# Altium schematic symbol library Movandi_10.SchLib: 36 symbols
Pins are listed as number, name and electrical type; pins without a type are passive.

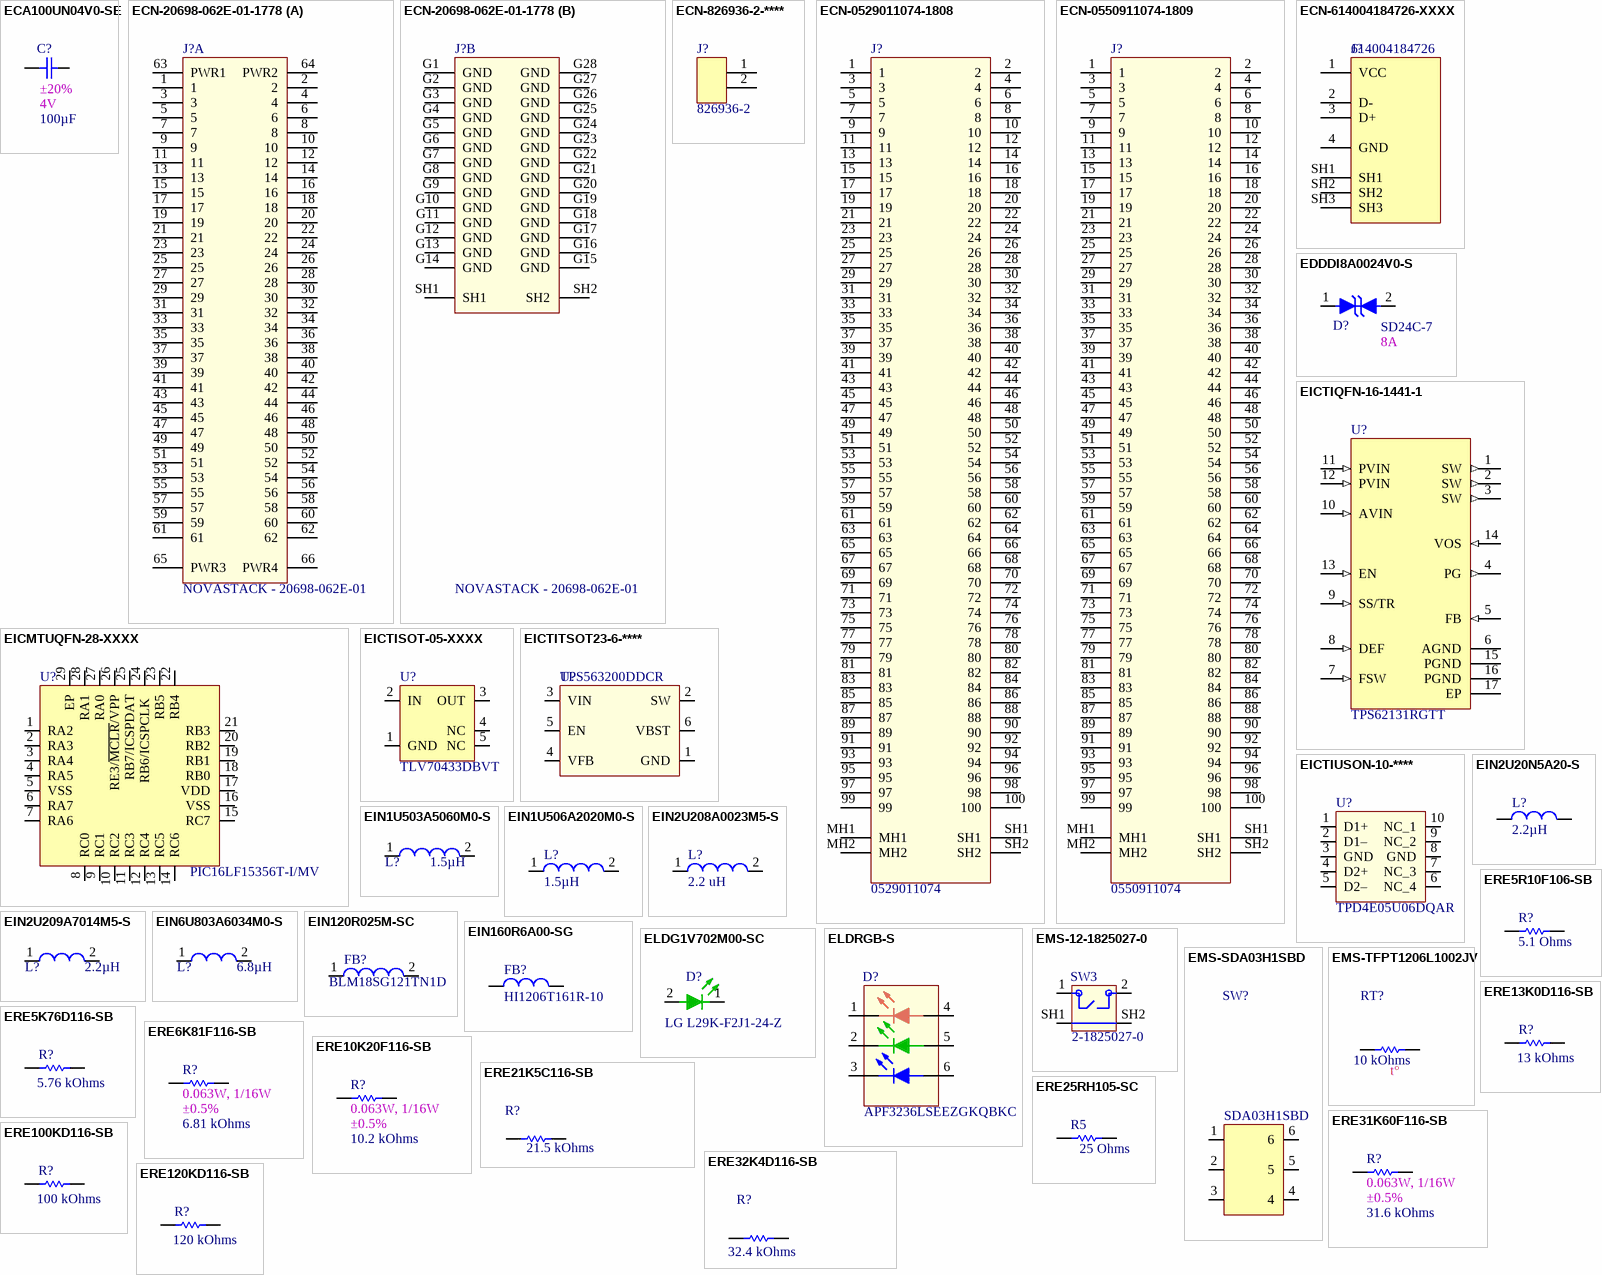
[diagram p0: symbols ECA100UN04V0-SE to ERE120KD116-SB]

## ECA100UN04V0-SE
designator C?, comment value 100µF  2nd Auxiliary Field: ±20%  1st Auxiliary Field: 4V  (hidden comment: CAP CER 100UF 4V X5R 0805)
Manufacturer: Murata Electronics; Vendor Part Number: 490-10510-1-ND; Manufacturer Part Number: GRM21BR60G107ME15L; Internal Part Number: ECA100UN04V0-SE; Vendor Name: Digi-Key; 3rd Auxiliary Field: ROHS3 Compliant; Component Height (mm): 1.45mm; Part Type: CAP CER 100UF 4V X5R 0805; 4th Auxiliary Field: *; Temp Co: X5R
footprint SMDC0805 (Footprint not found)
pins: 1, 2

## ECN-20698-062E-01-1778
designator J?, comment Manufacturer Part Number: NOVASTACK - 20698-062E-01  (hidden comment: CONN REC 0.35 mm pitch, 62 POS SMD)
Manufacturer: I-PEX Connectors; Internal Part Number: ECN-20698-062E-01-1778; 1st Auxiliary Field: Receptacle; 2nd Auxiliary Field: 3.5mm; 3rd Auxiliary Field: 62Pos; Component Height (mm): .75mm; Temp Co: -40°C ~ 85°C; Value: 20698-062E-01; Vendor Part Number: https://www.i-pex.com/product/novastack-35-hdp; 4th Auxiliary Field: *; Part Type: CONN REC 0.35 mm pitch, 62 POS SMD
footprint NOVASTACK_I-PEX_20698-062E-01_20698-062E-01 (Footprint not found)
part A pins: 1, 2, 3, 4, 5, 6, 7, 8, 9, 10, 11, 12, 13, 14, 15, 16, 17, 18, 19, 20, 21, 22, 23, 24, 25, 26, 27, 28, 29, 30, 31, 32, 33, 34, 35, 36, 37, 38, 39, 40, 41, 42, 43, 44, 45, 46, 47, 48, 49, 50, 51, 52, 53, 54, 55, 56, 57, 58, 59, 60, 61, 62, 63 PWR1 (power), 64 PWR2 (power), 65 PWR3 (power), 66 PWR4 (power)
part B pins: G1 GND (power), G2 GND (power), G3 GND (power), G4 GND (power), G5 GND (power), G6 GND (power), G7 GND (power), G8 GND (power), G9 GND (power), G10 GND (power), G11 GND (power), G12 GND (power), G13 GND (power), G14 GND (power), G15 GND (power), G16 GND (power), G17 GND (power), G18 GND (power), G19 GND (power), G20 GND (power), G21 GND (power), G22 GND (power), G23 GND (power), G24 GND (power), G25 GND (power), G26 GND (power), G27 GND (power), G28 GND (power), SH1 (power), SH2 (power)

## ECN-826936-2-****
designator J?, comment Manufacturer Part Number: 826936-2  (hidden comment: CONN HEADER VERT 2POS 2.54MM)
Internal Part Number: ECN-826936-2-****; Manufacturer: TE Connectivity AMP Connectors; Vendor Part Number: A122912-ND; 1st Auxiliary Field: 2; 2nd Auxiliary Field: 5A; 3rd Auxiliary Field: RoHS Compliant; Component Height (mm): 11.81mm; Temp Co: -65°C ~ 105°C; Value: 826936-2; Vendor Name: Digi-Key; 4th Auxiliary Field: *; Part Type: CONN HEADER VERT 2POS 2.54MM
footprint HDRV2W62P254_1X2_500X250X800P (Footprint not found)
pins: 1, 2

## ECN-0529011074-1808
designator J?, comment value 0529011074  (hidden comment: CONN RCPT 100POS SMD GOLD)
Manufacturer: Molex; Internal Part Number: ECN-0529011074-1808; Vendor Part Number: WM8920CT-ND; 3rd Auxiliary Field: ROHS3 Compliant; Component Height (mm): 10.00mm; Temp Co: -55°C ~ 105°C; 4th Auxiliary Field: ****; Vendor Name: Digi-Key; 1st Auxiliary Field: Receptacle, Center Strip Contacts; 2nd Auxiliary Field: 0.025" (0.64mm); Manufacturer Part Number: 0529011074; Part Type: CONN RCPT 100POS SMD GOLD
footprint MOLEX_0529011074
pins: 1, 2, 3, 4, 5, 6, 7, 8, 9, 10, 11, 12, 13, 14, 15, 16, 17, 18, 19, 20, 21, 22, 23, 24, 25, 26, 27, 28, 29, 30, 31, 32, 33, 34, 35, 36, 37, 38, 39, 40, 41, 42, 43, 44, 45, 46, 47, 48, 49, 50, 51, 52, 53, 54, 55, 56, 57, 58, 59, 60, 61, 62, 63, 64, 65, 66, 67, 68, 69, 70, 71, 72, 73, 74, 75, 76, 77, 78, 79, 80, 81, 82, 83, 84, 85, 86, 87, 88, 89, 90, 91, 92, 93, 94, 95, 96, 97, 98, 99, 100, MH1 (power), MH2 (power), SH1 (power), SH2 (power)

## ECN-0550911074-1809
designator J?, comment value 0550911074  (hidden comment: CONN PLUG 100POS SMD GOLD)
Manufacturer: Molex; Internal Part Number: ECN-0550911074-1809; Vendor Part Number: WM3784CT-ND; 3rd Auxiliary Field: ROHS3 Compliant; Component Height (mm): 5.00mm; Temp Co: -55°C ~ 105°C; 4th Auxiliary Field: ***; Vendor Name: Digi-Key; 1st Auxiliary Field: Plug, Outer Shroud Contacts; 2nd Auxiliary Field: 0.025" (0.64mm); Manufacturer Part Number: 0550911074; Part Type: CONN PLUG 100POS SMD GOLD
footprint MOLEX_0550911074
pins: 1, 2, 3, 4, 5, 6, 7, 8, 9, 10, 11, 12, 13, 14, 15, 16, 17, 18, 19, 20, 21, 22, 23, 24, 25, 26, 27, 28, 29, 30, 31, 32, 33, 34, 35, 36, 37, 38, 39, 40, 41, 42, 43, 44, 45, 46, 47, 48, 49, 50, 51, 52, 53, 54, 55, 56, 57, 58, 59, 60, 61, 62, 63, 64, 65, 66, 67, 68, 69, 70, 71, 72, 73, 74, 75, 76, 77, 78, 79, 80, 81, 82, 83, 84, 85, 86, 87, 88, 89, 90, 91, 92, 93, 94, 95, 96, 97, 98, 99, 100, MH1 (power), MH2 (power), SH1 (power), SH2 (power)

## ECN-614004184726-XXXX
designator J?, comment value 614004184726  (hidden comment: CONN RCPT USB2.0 TYPEA 4POS R/A)
Vendor Part Number: 732-10010-ND; Manufacturer: Würth Elektronik; Internal Part Number: ECN-614004184726-XXXX; 1st Auxiliary Field: 30VAC; 2nd Auxiliary Field: 2A; 3rd Auxiliary Field: 5000; Vendor Name: Digi-Key; 4th Auxiliary Field: ROHS3 Compliant; Component Height (mm): 6.82mm; Temp Co: -40°C ~ 85°C; Part Type: CONN RCPT USB2.0 TYPEA 4POS R/A; Manufacturer Part Number: 614004184726
footprint CONN_614004184726
pins: 1 VCC "data input or output (referenced to VCC(B))", 2 D- "Ground", 3 D+ "supply voltage A", 4 GND "data input or output (referenced to VCC(B))", SH1, SH2, SH3

## EDDDI8A0024V0-S
designator D?, comment value SD24C-7  2nd Auxiliary Field: 8A  (hidden comment: GENERAL PROTECTION PP SOD323)
Manufacturer: Diodes Incorporated; Vendor Part Number: 31-SD24C-7CT-ND; Internal Part Number: EDDDI8A0024V0-S; Vendor Name: Digi-Key; 3rd Auxiliary Field: RoHS Compliant; Component Height (mm): 1.2mm; Temp Co: -65°C ~ 150°C (TJ); 1st Auxiliary Field: 24V (Max); Part Type: GENERAL PROTECTION PP SOD323; Manufacturer Part Number: SD24C-7; 4th Auxiliary Field: *
footprint DIOM1713X11N (Molded Diode, 2-Leads, Body 1.70x1.30mm, IPC Medium Density)
pins: 1, 2

## EICMTUQFN-28-XXXX
designator U?, comment value PIC16LF15356T-I/MV  (hidden comment: IC MCU 8BIT 28KB FLASH 28UQFN)
Internal Part Number: EICMTSOT23-6-1803; Manufacturer: Microchip Technology; Manufacturer Part Number: EICMTUQFN-28-XXXX; Vendor Part number: PIC16LF15356T-I/MVCT-ND; 1st Auxiliary Field: 1.8V ~ 3.6V; 2nd Auxiliary Field: 8-Bit; 3rd Auxiliary Field: ROHS3 Compliant; Component Height (mm): 1.1mm; Temp Co: -40°C ~ 85°C (TA); Vendor Name: Digi-Key; 4th Auxiliary Field: *; Part Type: IC MCU 8BIT 28KB FLASH 28UQFN
footprint QFN40P400X400X55_HS-29N (QFN, 28-Leads, Body 4.00x4.00mm, Pitch 0.40mm, Thermal Pad 2.65x2.65mm, IPC Medium Density)
pins: 1 RA2, 2 RA3, 3 RA4, 4 RA5, 5 VSS, 6 RA7, 7 RA6, 8 RC0, 9 RC1, 10 RC2, 11 RC3, 12 RC4, 13 RC5, 14 RC6, 15 RC7, 16 VSS, 17 VDD, 18 RB0, 19 RB1, 20 RB2, 21 RB3, 22 RB4, 23 RB5, 24 RB6/ICSPCLK , 25 RB7/ICSPDAT, 26 RE3/~{MCLR}/VPP, 27 RA0, 28 RA1, 29 EP

## EICTIQFN-16-1441-1
designator U?, comment Manufacturer Part Number: TPS62131RGTT  (hidden comment: IC REG BUCK 1.8V 3A 16QFN)
Vendor Part Number: 296-TPS62131RGTTCT-ND; Manufacturer: Texas Instruments; Internal Part Number: EICTIQFN-16-1441-1; 3rd Auxiliary Field: ROHS3 Compliant; Vendor Name: Digi-Key; Component Height (mm): 1.00mm; Temp Co: -40°C ~ 85°C (TA); Value: TPS62131RGTT; Part Type: IC REG BUCK 1.8V 3A 16QFN; 1st Auxiliary Field: 1.8V; 2nd Auxiliary Field: 3A; 4th Auxiliary Field: *
footprint QFN50P300X300X100-16N (Footprint not found)
pins: 1 SW (out), 2 SW (out), 3 SW (out), 4 PG (out), 5 FB (in), 6 AGND (power), 7 FSW (in), 8 DEF (in), 9 SS/TR (in), 10 AVIN (in), 11 PVIN (in), 12 PVIN (in), 13 EN (in), 14 VOS (in), 15 PGND (power), 16 PGND (power), 17 EP

## EICTISOT-05-XXXX
designator U?, comment value TLV70433DBVT  (hidden comment: IC REG LINEAR 3.3V 150MA SOT23-5)
Manufacturer: Texas Instruments; Internal Part Number: EICTISOT-05-XXXX; Vendor Part Number: 296-27946-1-ND; 3rd Auxiliary Field: ROHS3 Compliant; Component Height (mm): 1.45mm; Vendor Name: Digi-Key; Temp Co: -40°C ~ 125°C (TJ); 1st Auxiliary Field: 3.3V; 2nd Auxiliary Field: 150ma; Part Type: IC REG LINEAR 3.3V 150MA SOT23-5; 4th Auxiliary Field: *; Manufacturer Part Number: TLV70433DBVT
footprint SOT95P280X100-5N (Footprint not found)
pins: 1 GND (power), 2 IN, 3 OUT, 4 NC, 5 NC

## EICTITSOT23-6-****
designator U?, comment value TPS563200DDCR  (hidden comment: IC REG BUCK ADJ 3A TSOT23-6)
Internal Part Number: EICTITSOT23-6-****; Manufacturer: Texas Instruments; Vendor Part Number: 296-43663-1-ND; 1st Auxiliary Field: 4.5V; 3rd Auxiliary Field: ROHS3 Compliant; 4th Auxiliary Field: 17V; Component Height (mm): 1.1mm; Temp Co: -40°C ~ 85°C (TA); Vendor Name: Digikey; 2nd Auxiliary Field: 3A; Manufacturer Part Number: TPS563200DDCR; Part Type: IC REG BUCK ADJ 3A TSOT23-6
footprint SOT95P280X130-6N (Footprint not found)
pins: 1 GND (power), 2 SW, 3 VIN (power), 4 VFB, 5 EN "Receive enable Low", 6 VBST

## EICTIUSON-10-****
designator U?, comment value TPD4E05U06DQAR  (hidden comment: TVS DIODE 5.5V 14V 10SON)
Manufacturer: Texas Instruments; Internal Part Number: EICTIUSON-10-****; Vendor Part Number: 296-35765-1-ND; 1st Auxiliary Field: 5.5V (Max); 2nd Auxiliary Field: 2.5A (8/20µs); 3rd Auxiliary Field: ROHS3 Compliant; Component Height (mm): 0.55mm; Vendor Name: Digi-Key; Temp Co: -40°C ~ 125°C (TA); Part Type: TVS DIODE 5.5V 14V 10SON; 4th Auxiliary Field: *; Manufacturer Part Number: TPD4E05U06DQAR
footprint SOT95P280X130-6N (Footprint not found)
pins: 1 D1+, 2 D1–, 3 GND, 4 D2+, 5 D2–, 6 NC_4, 7 NC_3, 8 GND, 9 NC_2, 10 NC_1

## EIN1U503A5060M0-S
designator L?, comment value 1.5µH  (hidden comment: FIXED IND 1.5UH 3.5A 60 MOHM SMD)
Manufacturer: Murata Electronics; Manufacturer Part Number: DFE252012P-1R5M=P2; Internal Part Number: EIN1U503A5060M0-S; Vendor Part Number: 490-10648-1-ND; 3rd Auxiliary Field: ROHS3 Compliant; Vendor Name: Digi-Key; Component Height (mm): 1.20mm; Temp Co: -40°C ~ 125°C; 2nd Auxiliary Field: ±20%; 4th Auxiliary Field: *; Part Type: FIXED IND 1.5UH 3.5A 60 MOHM SMD; 1st Auxiliary Field: 3.5A
footprint SMDL1008
pins: 1, 2

## EIN1U506A2020M0-S
designator L?, comment value 1.5µH  (hidden comment: FIXED IND 1.5UH 6.2A 20 MOHM SMD)
Manufacturer: Würth Elektronik; Manufacturer Part Number: 74438357015; Internal Part Number: EIN1U506A2020M0-S; Vendor Part Number: 732-11199-1-ND; 3rd Auxiliary Field: RoHS Compliant; Vendor Name: Digi-Key; Component Height (mm): 3.10mm; Temp Co: -40°C ~ 125°C; 2nd Auxiliary Field: ±20%; 4th Auxiliary Field: *; Part Type: FIXED IND 1.5UH 6.2A 20 MOHM SMD; 1st Auxiliary Field: 6.2A
footprint INDM4141X310N
pins: 1, 2

## EIN2U20N5A20-S
designator L?, comment value 2.2µH  (hidden comment: FIXED IND 2.2UH 5.2A 26 MOHM SMD)
Manufacturer Part Number: 74438357022; Manufacturer: Würth Elektronik; Internal Part Number: EIN2U20N5A20-S; Vendor Part Number: 732-11201-1-ND; 3rd Auxiliary Field: ROHS3 Compliant; Component Height (mm): 3.10mm; Temp Co: -40°C ~ 125°C; Vendor Name: Digi-Key; 2nd Auxiliary Field: 26mOhm Max; Part Type: FIXED IND 2.2UH 5.2A 26 MOHM SMD; 4th Auxiliary Field: *; 1st Auxiliary Field: 5.2A
pins: 1, 2

## EIN2U208A0023M5-S
designator L?, comment value 2.2 uH  (hidden comment: Fixed Inductors 2.2uH 20% 8A 23.5mOhms AEC-Q200)
Manufacturer: Coilcraft; Manufacturer Part Number: XFL4020-222MEC; Internal Part Number: EIN2U208A0023M5-S; Vendor Part Number: 994-XFL4020-222MEC; 3rd Auxiliary Field: RoHS Compliant; Vendor Name: Mouser; Component Height (mm): 2.1 mm; Temp Co: -40°C ~ 125°C; 4th Auxiliary Field: *; Part Type: Fixed Inductors 2.2uH 20% 8A 23.5mOhms AEC-Q200; 1st Auxiliary Field: 8 A; 2nd Auxiliary Field: 20 %
footprint INDC4040X210N
pins: 1, 2

## EIN2U209A7014M5-S
designator L?, comment value 2.2µH  (hidden comment: FIX IND 2.2UH 9.7A 14.5MOHM SMD)
Manufacturer: Pulse Electronics Power; Manufacturer Part Number: PA5003.222NLT; Vendor Part Number: 553-4088-1-ND; Internal Part Number: EIN2U209A7014M5-S; 3rd Auxiliary Field: ROHS Compliant; Vendor Name: Digi-Key; 4th Auxiliary Field: 14.5mOhm Max; Component Height (mm): 3.10mm; Temp Co: -40°C ~ 125°C; 2nd Auxiliary Field: ±20%; Part Type: FIX IND 2.2UH 9.7A 14.5MOHM SMD; 1st Auxiliary Field: 9.7A
footprint INDM5553X310N
pins: 1, 2

## EIN6U803A6034M0-S
designator L?, comment value 6.8µH  (hidden comment: FIXED IND 6.8UH 3.6A 34 MOHM SMD)
Manufacturer: Bourns Inc.; Manufacturer Part Number: SRN6045TA-6R8M; Vendor Part Number: SRN6045TA-6R8MCT-ND; Internal Part Number: EIN6U803A6034M0-S; 3rd Auxiliary Field: ROHS3 Compliant; Vendor Name: Digi-Key; 4th Auxiliary Field: 34mOhm; Component Height (mm): 4.50mm; Temp Co: -55°C ~ 125°C; 2nd Auxiliary Field: ±20%; Part Type: FIXED IND 6.8UH 3.6A 34 MOHM SMD; 1st Auxiliary Field: 3.6A
footprint INDP6060X450N
pins: 1, 2

## EIN120R025M-SC
designator FB?, comment value BLM18SG121TN1D  (hidden comment: FERRITE BEAD 120 OHM 0603 1LN)
Manufacturer: Murata Electronics; Internal Part Number: EIN120R025M-SC; Vendor Part Number: 490-3996-1-ND; Component Height (mm): 0.65mm; 3rd Auxiliary Field: 3A; Temp Co: -55°C ~ 125°C; Vendor Name: Digi-Key; 2nd Auxiliary Field: 25mOhm; 1st Auxiliary Field: 120 Ohm @ 100MHz; Manufacturer Part Number: BLM18SG121TN1D; Part Type: FERRITE BEAD 120 OHM 0603 1LN; 4th Auxiliary Field: *
footprint SMDL0603 (0603 from SM-752 data)
pins: 1, 2

## EIN160R6A00-SG
designator FB?, comment value HI1206T161R-10  (hidden comment: FERRITE BEAD 160 OHM 1206 1LN)
Manufacturer: Laird-Signal Integrity Products; Internal Part Number: EIN160R6A00-SG; Vendor Part Number: 240-2411-1-ND; 3rd Auxiliary Field: RoHS Compliant; Component Height (mm): 1.80mm; Temp Co: -40°C ~ 125°C; Vendor Name: Digi-Key; 2nd Auxiliary Field: 18mOhm; 1st Auxiliary Field: 6A; Manufacturer Part Number: HI1206T161R-10; Part Type: FERRITE BEAD 160 OHM 1206 1LN; 4th Auxiliary Field: *
footprint SMDL1206 (Footprint not found)
pins: 1, 2

## ELDG1V702M00-SC
designator D?, comment value LG L29K-F2J1-24-Z  (hidden comment: LED GREEN DIFFUSED 0603 SMD)
Manufacturer: OSRAM Opto Semiconductors Inc.; Internal Part Number: ELDG1V702M00-SC; Vendor Part Number: 475-3118-1-ND; Component Height (mm): 0.65mm; 3rd Auxiliary Field: ROHS3 Compliant; Vendor Name: Digi-Key; 1st Auxiliary Field: 1.7V; 2nd Auxiliary Field: 2mA; Part Type: LED GREEN DIFFUSED 0603 SMD; 4th Auxiliary Field: *; Manufacturer Part Number: LG L29K-F2J1-24-Z; Temp Co: *
footprint SMDLEDR0603 (LED GREEN CLEAR THIN 0603 SMD-LTST-C191KGKT)
pins: 1 A, 2 K

## ELDRGB-S
designator D?, comment value APF3236LSEEZGKQBKC  (hidden comment: LED RGB CLEAR 6SMD)
Manufacturer: Kingbright; Internal Part Number: ELDRGB-S; Vendor Part Number: 754-1969-6-ND; Component Height (mm): 1.30mm; 3rd Auxiliary Field: Independent; 4th Auxiliary Field: ROHS3 Compliant; Vendor Name: Digi-Key; 1st Auxiliary Field: 2.1V Red, 3.1V Green, 3.1V Blue; 2nd Auxiliary Field: 15mcd Red, 60mcd Green, 10mcd Blue; Part Type: LED RGB CLEAR 6SMD; Manufacturer Part Number: APF3236LSEEZGKQBKC; Temp Co: *
footprint LED_APF3236LSEEZGKQBKC
pins: 1 K, 2 A, 3 K, 4 K, 5 K, 6 K

## EMS-12-1825027-0
designator SW3, comment value 2-1825027-0  (hidden comment: SWITCH TACTILE SPST-NO 0.05A 24V)
Manufacturer: TE Connectivity ALCOSWITCH Switches; Internal Part Number: EMS-12-1825027-0; Vendor Part Number: 450-1661-ND; 3rd Auxiliary Field: RoHS Compliant; Component Height (mm): 7.01mm; Temp Co: -35°C ~ 85°C; Vendor Name: Digi-Key; 1st Auxiliary Field: 0.05A @ 24VDC; Manufacturer Part Number: 2-1825027-0; Part Type: SWITCH TACTILE SPST-NO 0.05A 24V; 4th Auxiliary Field: *; 2nd Auxiliary Field: SPST-NO
footprint SW_2-1825027-0 (Footprint not found)
pins: 1, 2, SH1, SH2

## EMS-SDA03H1SBD
designator SW?, comment value SDA03H1SBD  (hidden comment: SWITCH SLIDE DIP SPST 25MA 24V)
Manufacturer: C&K; Internal Part Number: EMS-SDA03H1SBD; Vendor Part Number: CKN6062-ND; 2nd Auxiliary Field: 24VDC; 3rd Auxiliary Field: ROHS3 Compliant; Component Height (mm): 5.45mm; Vendor Name: Digi-Key; Temp Co: -40°C ~ 85°C; 1st Auxiliary Field: 25mA; 4th Auxiliary Field: SPST; Part Type: SWITCH SLIDE DIP SPST 25MA 24V; Manufacturer Part Number: SDA03H1SBD
footprint SW_SDA03H1SBD
pins: 1, 2, 3, 4 (power), 5 (power), 6 (power)

## EMS-TFPT1206L1002JV
designator RT?, comment value 10 kOhms  4th Auxiliary Field: t°  (hidden comment: THERMISTOR PTC 10K OHM 5% 1206)
Manufacturer Part Number: TFPT1206L1002JV; Manufacturer: Vishay Dale; Internal Part Number: EMS-TFPT1206L1002JV; Vendor Part Number: 541-1190-1-ND; 3rd Auxiliary Field: ROHS3 Compliant; Component Height (mm): 0.65mm; Temp Co: -55°C ~ 125°C; Vendor Name: Digi-Key; 1st Auxiliary Field: 125mW; Part Type: THERMISTOR PTC 10K OHM 5% 1206; 2nd Auxiliary Field: ±5%
footprint SMDR1206 (Footprint not found)
pins: 1, 2

## ERE5K76D116-SB
designator R?, comment value 5.76 kOhms  (hidden comment: RES SMD 5.76KOHM 0.1% 1/16W 0402)
Manufacturer Part Number: ERA-2AEB5761X; Manufacturer: Panasonic Electronic Components; Internal Part Number: ERE5K76D116-SB; Vendor Part Number: P5.76KDCCT-ND; 3rd Auxiliary Field: ROHS3 Compliant; Component Height (mm): 0.40mm; Temp Co: -55°C ~ 155°C; Vendor Name: Digi-Key; 1st Auxiliary Field: 0.063W, 1/16W; Part Type: RES SMD 5.76KOHM 0.1% 1/16W 0402; 4th Auxiliary Field: *; 2nd Auxiliary Field: ±0.1%
footprint SMDR0402
pins: 1, 2

## ERE5R10F106-SB
designator R?, comment value 5.1 Ohms  (hidden comment: RES SMD 5.1 OHM 1% 1/6W 0402)
Manufacturer Part Number: RL0510S-5R1-F; Manufacturer: Susumu; Internal Part Number: ERE5R10F106-SB; Vendor Part Number: 408-1454-1-ND; Temp Co: -55°C ~ 125°C; 4th Auxiliary Field: ROHS3 Compliant; Vendor Name: Digi-Key; Component Height (mm): 0.45mm; 1st Auxiliary Field: 0.167W, 1/6W; 3rd Auxiliary Field: *; Part Type: RES SMD 5.1 OHM 1% 1/6W 0402; 2nd Auxiliary Field: ±1%
footprint SMDR0402 (Footprint not found)
pins: 1, 2

## ERE6K81F116-SB
designator R?, comment value 6.81 kOhms  1st Auxiliary Field: 0.063W, 1/16W  2nd Auxiliary Field: ±0.5%  (hidden comment: RES SMD 6.81KOHM 0.5% 1/16W 0402)
Manufacturer Part Number: RT0402DRE076K81L; Manufacturer: Yageo; Internal Part Number: ERE6K81F116-SB; Vendor Part Number: 311-2314-1-ND; 3rd Auxiliary Field: ROHS3 Compliant; Component Height (mm): 0.35mm; Temp Co: -55°C ~ 155°C; Vendor Name: Digi-Key; Part Type: RES SMD 6.81KOHM 0.5% 1/16W 0402
footprint SMDR0402
pins: 1, 2

## ERE10K20F116-SB
designator R?, comment value 10.2 kOhms  1st Auxiliary Field: 0.063W, 1/16W  2nd Auxiliary Field: ±0.5%  (hidden comment: RES 10.2K OHM 0.5% 1/16W 0402)
Manufacturer Part Number: RNCF0402DTE10K2; Manufacturer: Stackpole Electronics Inc; Internal Part Number: ERE10K20F116-SB; Vendor Part Number: RNCF0402DTE10K2CT-ND; 3rd Auxiliary Field: ROHS3 Compliant; Component Height (mm): 0.35mm; Temp Co: -55°C ~ 155°C; Vendor Name: Digi-Key; Part Type: RES 10.2K OHM 0.5% 1/16W 0402
footprint SMDR0402
pins: 1, 2

## ERE13K0D116-SB
designator R?, comment value 13 kOhms  (hidden comment: RES SMD 13K OHM 0.1% 1/16W 0402)
Manufacturer Part Number: ERA-2AEB133X; Manufacturer: Panasonic Electronic Components; Internal Part Number: ERE13K0D116-SB; Vendor Part Number: P13KDCCT-ND; 3rd Auxiliary Field: ROHS3 Compliant; Component Height (mm): 0.40mm; Temp Co: -55°C ~ 155°C; Vendor Name: Digi-Key; 1st Auxiliary Field: 0.063W; Part Type: RES SMD 13K OHM 0.1% 1/16W 0402; 4th Auxiliary Field: *; 2nd Auxiliary Field: ±0.1%
footprint SMDR0402
pins: 1, 2

## ERE21K5C116-SB
designator R?, comment value 21.5 kOhms  (hidden comment: RES 21.5K OHM 0.5% 1/16W 0402)
Internal Part Number: ERE21K5C116-SB; Manufacturer Part Number: RNCF0402DTE21K5; Manufacturer: Stackpole Electronics Inc; Vendor Part Number: RNCF0402DTE21K5CT-ND; 3rd Auxiliary Field: RoHS Compliant; Component Height (mm): 0.35mm; Temp Coefficient: -55°C ~ 155°C; Vendor: Digi-Key; 1st Auxiliary Field: 0.063W, 1/16W; 4th Auxiliary Field: *; Part Type: RES 21.5K OHM 0.5% 1/16W 0402; 2nd Auxiliary Field: ±0.5%
footprint SMDR0402 (Footprint not found)
footprint SMDRC0402
pins: 1, 2

## ERE25RH105-SC
designator R5, comment value 25 Ohms  (hidden comment: RES SMD 25 OHM 2% 1.5W 0603)
Manufacturer Part Number: RCP0603W25R0GEB; Manufacturer: Vishay Dale; Internal Part Number: ERE25RH105-SC; Vendor Part Number: 541-2654-1-ND; 3rd Auxiliary Field: ROHS3 Compliant; Component Height (mm): 0.58mm; Temp Co: -65°C ~ 155°C; Vendor Name: Digi-Key; Part Type: RES SMD 25 OHM 2% 1.5W 0603; 4th Auxiliary Field: *; 1st Auxiliary Field: 1.5W; 2nd Auxiliary Field: ±2%
footprint SMDR0603 (Footprint not found)
pins: 1, 2

## ERE31K60F116-SB
designator R?, comment value 31.6 kOhms  1st Auxiliary Field: 0.063W, 1/16W  2nd Auxiliary Field: ±0.5%  (hidden comment: RES SMD 31.6KOHM 0.5% 1/16W 0402)
Manufacturer Part Number: RT0402DRE0731K6L; Manufacturer: Yageo; Internal Part Number: ERE31K60F116-SB; Vendor Part Number: 311-2272-1-ND; 3rd Auxiliary Field: ROHS3 Compliant; Component Height (mm): 0.35mm; Temp Co: -55°C ~ 155°C; Vendor Name: Digi-Key; Part Type: RES SMD 31.6KOHM 0.5% 1/16W 0402
footprint SMDR0402
pins: 1, 2

## ERE32K4D116-SB
designator R?, comment value 32.4 kOhms  (hidden comment: RES SMD 32.4KOHM 0.1% 1/16W 0402)
Manufacturer Part Number: ERA-2AEB3242X; Manufacturer: Panasonic Electronic Components; Internal Part Number: ERE32K4D116-SB; Vendor Part Number: P32.4KDCCT-ND; Component Height (mm): 0.40mm; 3rd Auxiliary Field: ROHS3 Compliant; Vendor Name: Digi-Key; Temp Co: -55°C ~ 155°C; 1st Auxiliary Field: 0.063W; Part Type: RES SMD 32.4KOHM 0.1% 1/16W 0402; 4th Auxiliary Field: *; 2nd Auxiliary Field: ±0.1%
footprint SMDR0402
pins: 1, 2

## ERE100KD116-SB
designator R?, comment value 100 kOhms  (hidden comment: RES SMD 100K OHM 0.1% 1/16W 0402)
Manufacturer Part Number: ERA-2AEB104X; Manufacturer: Panasonic Electronic Components; Internal Part Number: ERE100KD116-SB; Vendor Part Number: P100KDCCT-ND; 3rd Auxiliary Field: ROHS3 Compliant; Component Height (mm): 0.4mm; Temp Co: -55°C ~ 155°C; Vendor Name: Digi-Key; 1st Auxiliary Field: 0.063W; Part Type: RES SMD 100K OHM 0.1% 1/16W 0402; 4th Auxiliary Field: *; 2nd Auxiliary Field: ±0.1%
footprint SMDR0402
pins: 1, 2

## ERE120KD116-SB
designator R?, comment value 120 kOhms  (hidden comment: RES SMD 120K OHM 0.1% 1/16W 0402)
Manufacturer Part Number: RT0402BRD07120KL; Manufacturer: Yageo; Internal Part Number: ERE120KD116-SB; Vendor Part Number: YAG4168CT-ND; 3rd Auxiliary Field: ROHS3 Compliant; Component Height (mm): 0.35mm; Temp Co: -55°C ~ 155°C; Vendor Name: Digi-Key; 1st Auxiliary Field: 0.063W; Part Type: RES SMD 120K OHM 0.1% 1/16W 0402; 4th Auxiliary Field: *; 2nd Auxiliary Field: ±0.1%
footprint SMDR0402
pins: 1, 2